# Altium schematic symbol library PFT Connector.SchLib: 1 symbol
Pins are listed as number, name and electrical type; pins without a type are passive.

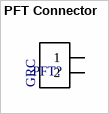
[diagram p0: symbol PFT Connector]

## PFT Connector
designator PFT?  (value not drawn)
footprint PFT Connector
pins: 1, 2
text: GRC